# Altium footprint library RESC6432X060.PcbLib: 3 footprints
Each footprint in its own frame and in the unit in brackets; x right, y up, seen from the top. Pads: shape width x height; smd on the part's side, far side on the other; paste and mask are expansions set on the pad; w line width, h text height; cw(c..) or ccw(c..) is an arc to the next point about the centre after c.
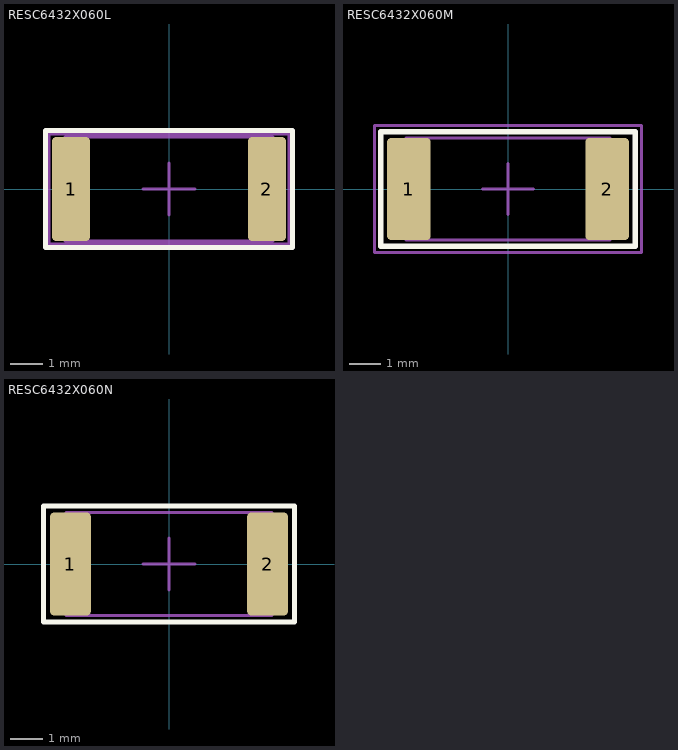
[diagram p0: the footprints below, top view; thin cyan lines are the x and y axes]

## RESC6432X060L [mm] "Resistors, Chip"
height 0.7
pads (2):
  rrect21% 1.17x3.2 smd: 1(-3.015,0) 2(3.015,0)
Top Overlay:
  lines w0.16: -3.8,-1.8 3.8,-1.8 3.8,1.8 -3.8,1.8 -3.8,-1.8
Top Component Center:
  lines w0.1: -0.8,0 0.8,0 ; 0,-0.8 0,0.8
Top Courtyard:
  lines w0.1: -3.7,-1.7 3.7,-1.7 3.7,1.7 -3.7,1.7 -3.7,-1.7
Top Assembly:
  lines w0.1: -3.2,-1.6 3.2,-1.6 3.2,1.6 -3.2,1.6 -3.2,-1.6
  text ".Designator" at 0,0 h1
3D body "RESC6432X060L.STEP": height 0.6, standoff 0, extent -3.2,-1.6 3.2,1.6

## RESC6432X060M [mm] "Resistors, Chip"
height 0.7
pads (2):
  rrect18% 1.37x3.2 smd: 1(-3.115,0) 2(3.115,0)
Top Overlay:
  lines w0.16: -4,-1.8 4,-1.8 4,1.8 -4,1.8 -4,-1.8
Top Component Center:
  lines w0.1: -0.8,0 0.8,0 ; 0,-0.8 0,0.8
Top Courtyard:
  lines w0.1: -4.2,-2 4.2,-2 4.2,2 -4.2,2 -4.2,-2
Top Assembly:
  lines w0.1: -3.2,-1.6 3.2,-1.6 3.2,1.6 -3.2,1.6 -3.2,-1.6
  text ".Designator" at 0,0 h1
3D body "RESC6432X060M.STEP": height 0.6, standoff 0, extent -3.2,-1.6 3.2,1.6

## RESC6432X060N [mm] "Resistors, Chip"
height 0.7
pads (2):
  rrect20% 1.27x3.2 smd: 1(-3.065,0) 2(3.065,0)
Top Overlay:
  lines w0.16: -3.9,-1.8 3.9,-1.8 3.9,1.8 -3.9,1.8 -3.9,-1.8
Top Component Center:
  lines w0.1: -0.8,0 0.8,0 ; 0,-0.8 0,0.8
Top Courtyard:
  lines w0.1: -3.9,-1.8 3.9,-1.8 3.9,1.8 -3.9,1.8 -3.9,-1.8
Top Assembly:
  lines w0.1: -3.2,-1.6 3.2,-1.6 3.2,1.6 -3.2,1.6 -3.2,-1.6
  text ".Designator" at 0,0 h1
3D body "RESC6432X060N.STEP": height 0.6, standoff 0, extent -3.2,-1.6 3.2,1.6